# EAGLE library part M7102 (library dec-r)
Positive I/O Bus Converter
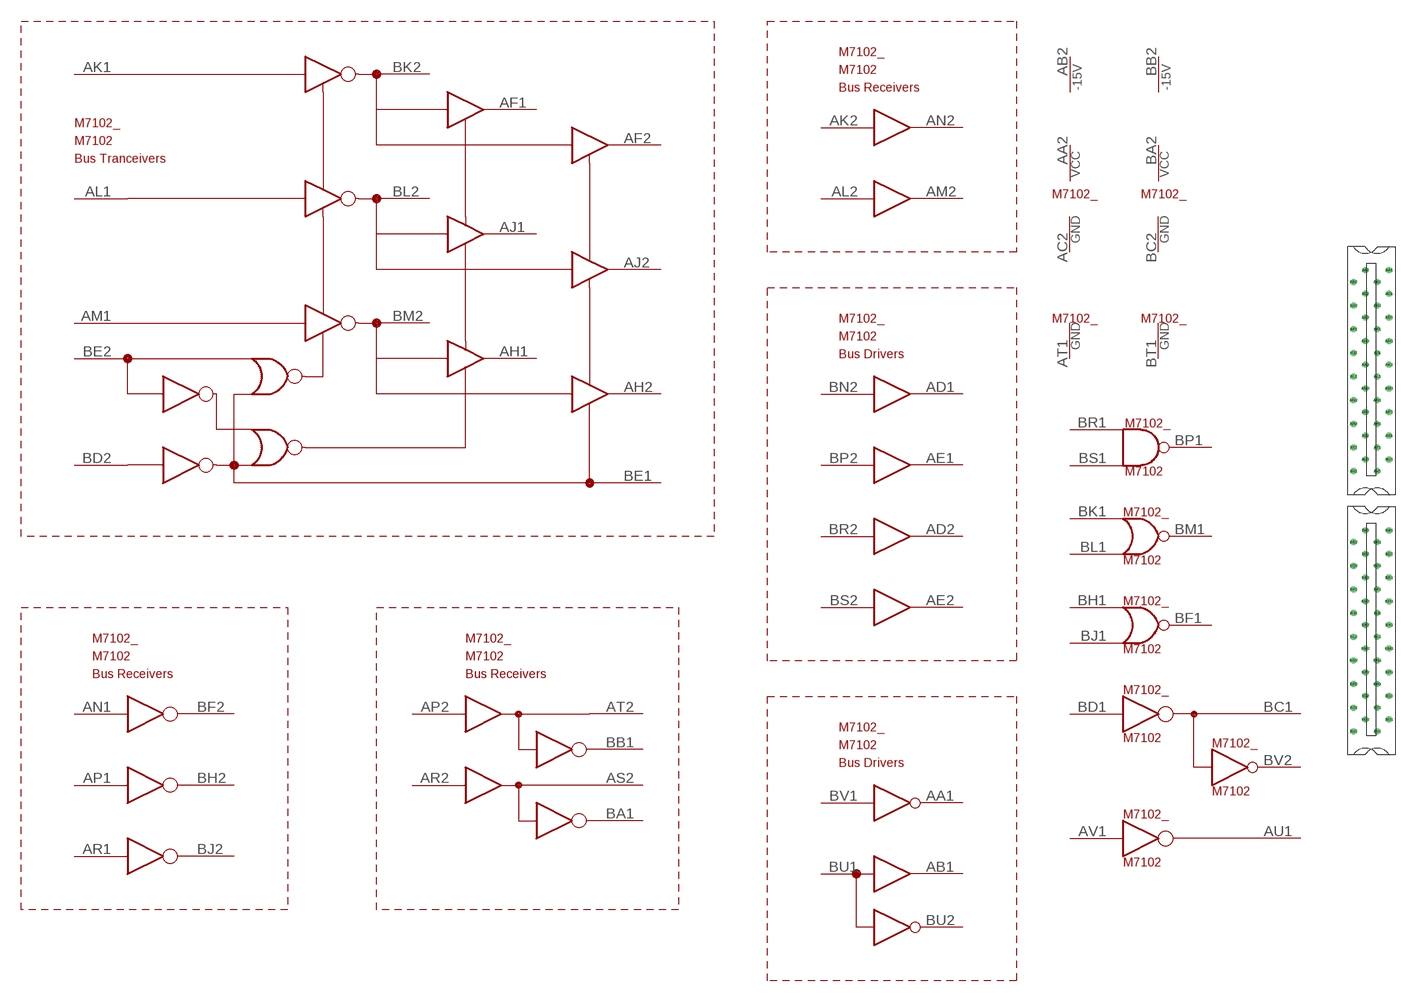
[diagram p83: symbol with the pads of H807-2; footprint H807-2]

Designator prefix M7102_; gates G$1=M7102A G$2=M7102B G$3=M7102C G$4=M7102D G$6=-15V G$7=POWER G$8=POWER G$9=-15V G$10=T1GND G$11=T1GND NAND=NAND2 NOR1=NOR2 NOR2=NOR2 G$12=M7102F G$5=M7102E G$13=M7102G

## M7102  [H807-2]
AA1  G$13:AA1  oc
AA2  G$7:VCC  pwr
AB1  G$13:AB1  oc
AB2  G$6:-15V  pwr
AC2  G$7:GND  pwr
AD1  G$5:AD1  oc
AD2  G$5:AD2  oc
AE1  G$5:AE1  oc
AE2  G$5:AE2  oc
AF1  G$1:AF1  oc
AF2  G$1:AF2  oc
AH1  G$1:AH1  oc
AH2  G$1:AH2  oc
AJ1  G$1:AJ1  oc
AJ2  G$1:AJ2  oc
AK1  G$1:AK1  in
AK2  G$3:AK2  in
AL1  G$1:AL1  in
AL2  G$3:AL2  in
AM1  G$1:AM1  in
AM2  G$3:AM2  out
AN1  G$2:AN1  in
AN2  G$3:AN2  out
AP1  G$2:AP1  in
AP2  G$4:AP2  in
AR1  G$2:AR1  in
AR2  G$4:AR2  in
AS2  G$4:AS2  out
AT1  G$10:GND  pwr
AT2  G$4:AT2  out
AU1  G$12:AU1  out
AV1  G$12:AV1  in
BA1  G$4:BA1  oc
BA2  G$8:VCC  pwr
BB1  G$4:BB1  oc
BB2  G$9:-15V  pwr
BC1  G$12:BC1  out
BC2  G$8:GND  pwr
BD1  G$12:BD1  in
BD2  G$1:BD2  in
BE1  G$1:BE1  out
BE2  G$1:BE2  in
BF1  NOR2:OUT  out
BF2  G$2:BF2  oc
BH1  NOR2:IN1  in
BH2  G$2:BH2  oc
BJ1  NOR2:IN2  in
BJ2  G$2:BJ2  oc
BK1  NOR1:IN1  in
BK2  G$1:BK2  oc
BL1  NOR1:IN2  in
BL2  G$1:BL2  oc
BM1  NOR1:OUT  out
BM2  G$1:BM2  oc
BN2  G$5:BN2  in
BP1  NAND:OUT  out
BP2  G$5:BP2  in
BR1  NAND:IN1  in
BR2  G$5:BR2  in
BS1  NAND:IN2  in
BS2  G$5:BS2  in
BT1  G$11:GND  pwr
BU1  G$13:BU1  in
BU2  G$13:BU2  out
BV1  G$13:BV1  in
BV2  G$12:BV2  oc

## Footprint H807-2 (pad centres in mm)
Two-wide Female Edge Connector
drill 1.092 octagon: AA1 4.763,60.325; AA2 -1.587,60.325; AB1 1.587,57.15; AB2 -4.763,57.15; AC1 4.763,53.975; AC2 -1.587,53.975; AD1 1.587,50.8; AD2 -4.763,50.8; AE1 4.763,47.625; AE2 -1.587,47.625; AF1 1.587,44.45; AF2 -4.763,44.45; AH1 4.763,41.275; AH2 -1.587,41.275; AJ1 1.587,38.1; AJ2 -4.763,38.1; AK1 4.763,34.925; AK2 -1.587,34.925; AL1 1.587,31.75; AL2 -4.763,31.75; AM1 4.763,28.575; AM2 -1.587,28.575; AN1 1.587,25.4; AN2 -4.763,25.4; AP1 4.763,22.225; AP2 -1.587,22.225; AR1 1.587,19.05; AR2 -4.763,19.05; AS1 4.763,15.875; AS2 -1.587,15.875; AT1 1.587,12.7; AT2 -4.763,12.7; AU1 4.763,9.525; AU2 -1.587,9.525; AV1 1.587,6.35; AV2 -4.763,6.35; BA1 4.763,-9.525; BA2 -1.587,-9.525; BB1 1.587,-12.7; BB2 -4.763,-12.7; BC1 4.763,-15.875; BC2 -1.587,-15.875; BD1 1.587,-19.05; BD2 -4.763,-19.05; BE1 4.763,-22.225; BE2 -1.587,-22.225; BF1 1.587,-25.4; BF2 -4.763,-25.4; BH1 4.763,-28.575; BH2 -1.587,-28.575; BJ1 1.587,-31.75; BJ2 -4.763,-31.75; BK1 4.763,-34.925; BK2 -1.587,-34.925; BL1 1.587,-38.1; BL2 -4.763,-38.1; BM1 4.763,-41.275; BM2 -1.587,-41.275; BN1 1.587,-44.45; BN2 -4.763,-44.45; BP1 4.763,-47.625; BP2 -1.587,-47.625; BR1 1.587,-50.8; BR2 -4.763,-50.8; BS1 4.763,-53.975; BS2 -1.587,-53.975; BT1 1.587,-57.15; BT2 -4.763,-57.15; BU1 4.763,-60.325; BU2 -1.587,-60.325; BV1 1.587,-63.5; BV2 -4.763,-63.5